# Altium schematic symbol library R电阻.SchLib: 8 symbols
Pins are listed as number, name and electrical type; pins without a type are passive.

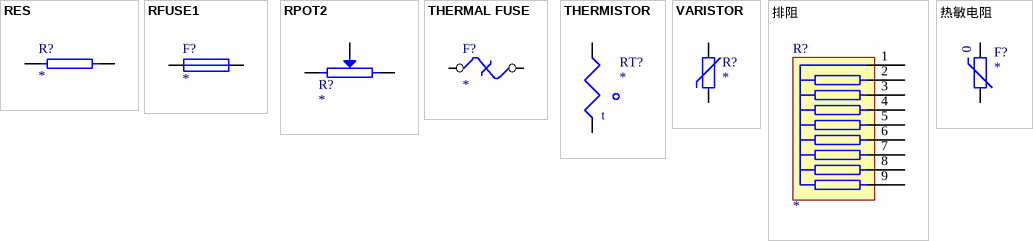
[diagram p0: symbols RES to 热敏电阻]

## RES
designator R?
footprint AXIAL0.4
footprint AXIAL0.3
footprint AXIAL0.5
pins: 1, 2

## RFUSE1
designator F?
Fuse
footprint AXIAL0.4
pins: 1, 2

## RPOT2
designator R?
Potentiometer
footprint VR5
footprint RVR-2
footprint RVR-3
footprint RVR-1
pins: 1, 2 VT, 3 2

## THERMAL FUSE
designator F?
footprint AXIAL0.4
pins: 1, 2

## THERMISTOR
designator RT?
footprint AXIAL0.4
pins: 1, 2
text: t

## VARISTOR
designator R?
footprint AXIAL0.4
pins: 1, 2

## 排阻
designator R?
footprint sip9
pins: 1, 2, 3, 4, 5, 6, 7, 8, 9

## 热敏电阻
designator F?
footprint AXIAL0.4
pins: 1, 2
text: 0